# EAGLE library part CON_SUBD_9X2 (library mylib_20130829)
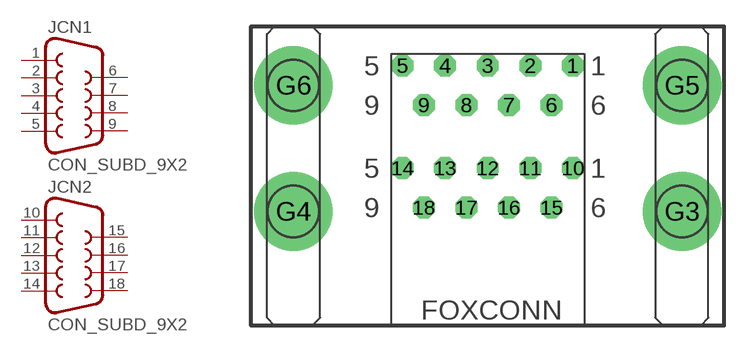
[diagram p35: symbol with the pads of CON_SUBD_9X2; footprint CON_SUBD_9X2]

Designator prefix J; gates CN1=CON_SUBD_9 CN2=CON_SUBD_9

## CON_SUBD_9X2  [CON_SUBD_9X2]
1  CN1:1  pas
2  CN1:2  pas
3  CN1:3  pas
4  CN1:4  pas
5  CN1:5  pas
6  CN1:6  pas
7  CN1:7  pas
8  CN1:8  pas
9  CN1:9  pas
10  CN2:1  pas
11  CN2:2  pas
12  CN2:3  pas
13  CN2:4  pas
14  CN2:5  pas
15  CN2:6  pas
16  CN2:7  pas
17  CN2:8  pas
18  CN2:9  pas

## Footprint CON_SUBD_9X2 (pad centres in mm)
drill 0.9 octagon: 1 20.726,16.764; 2 17.983,16.764; 3 15.24,16.764; 4 12.497,16.764; 5 9.754,16.764; 6 19.355,14.224; 7 16.612,14.224; 8 13.868,14.224; 9 11.125,14.224; 10 20.726,10.16; 11 17.983,10.16; 12 15.24,10.16; 13 12.497,10.16; 14 9.754,10.16; 15 19.355,7.62; 16 16.612,7.62; 17 13.868,7.62; 18 11.125,7.62
drill 3.302 pad 5.08: G3 27.762,7.366; G4 2.718,7.366; G5 27.762,15.494; G6 2.718,15.494